# Altium footprint library IC_Max_MAX6820UT+T.PcbLib: 3 footprints
Each footprint in its own frame and in the unit in brackets; x right, y up, seen from the top. Pads: shape width x height; smd on the part's side, far side on the other; paste and mask are expansions set on the pad; w line width, h text height; cw(c..) or ccw(c..) is an arc to the next point about the centre after c.
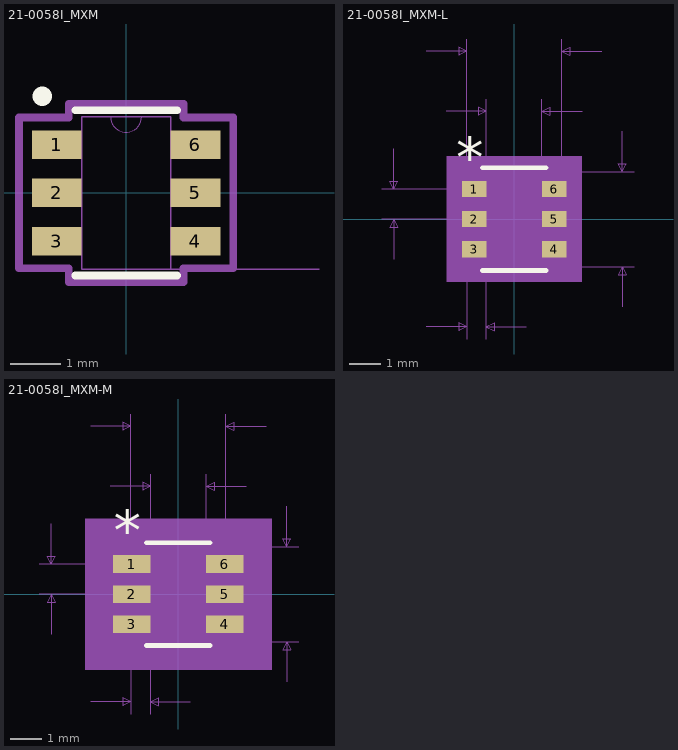
[diagram p0: the footprints below, top view; thin cyan lines are the x and y axes]

## 21-0058I_MXM [mil]
pads (6):
  rect 38.5x22 smd paste+0 mask+0: 1(-53.75,37.4) 2(-53.75,0) 3(-53.75,-37.4) 4(53.75,-37.4) 5(53.75,0) 6(53.75,37.4)
Top Overlay:
  circle w15: c-65,75 r0
  lines w6: -39.5,-64 39.5,-64 ; -39.5,64 39.5,64
Mechanical 7:
  lines w1: 0,-59 149.5,-59
Mechanical 13:
  lines w0: -12,59 ccw(c0,59) 12,59
  lines w1: -59,-47.4 -59,-27.4 -34.5,-27.4 -34.5,-47.4 -59,-47.4 ; -59,-10 -59,10 -34.5,10 -34.5,-10 -59,-10 ; -59,27.4 -59,47.4 -34.5,47.4 -34.5,27.4 -59,27.4 ; -34.5,-59 34.5,-59 34.5,59 -34.5,59 -34.5,-59 ; 34.5,-47.4 34.5,-27.4 59,-27.4 59,-47.4 34.5,-47.4 ; 34.5,-10 34.5,10 59,10 59,-10 34.5,-10 ; 34.5,27.4 34.5,47.4 59,47.4 59,27.4 34.5,27.4
  text "*" at -32,6 h50
Mechanical 15:
  lines w6: -83,-58.4 -83,58.4 -44.5,58.4 -44.5,69 44.5,69 44.5,58.4 83,58.4 83,-58.4 44.5,-58.4 44.5,-69 -44.5,-69 -44.5,-58.4 -83,-58.4
3D body "21-0058I_MXM.step": height 59.09, standoff 2, extent -59.01,-59.01 59.01,59.01

## 21-0058I_MXM-L [mil]
pads (6):
  rect 30.5x20 smd paste+0 mask+0: 1(-49.75,37.4) 2(-49.75,0) 3(-49.75,-37.4) 4(49.75,-37.4) 5(49.75,0) 6(49.75,37.4)
Top Overlay:
  lines w6: -39.5,-64 39.5,-64 ; -39.5,64 39.5,64
  text "*" at -72.25,52.4 h50
Mechanical 5:
  region: 84,-78 -84,-78 -84,78 84,78
Mechanical 7:
  lines w1: -164.75,0 -49.75,0 ; -164.75,37.4 -49.75,37.4 ; -149.75,-50 -149.75,0 ; -149.75,87.4 -149.75,37.4 ; -109,-134 -59,-134 ; -109,209 -59,209 ; -84.5,134 -34.5,134 ; -59,-149 -59,0 -59,224 ; -35,-149 -35,0 ; -34.5,0 -34.5,149 ; 0,-59 149.5,-59 ; 0,59 149.5,59 ; 15,-134 -35,-134 ; 34.5,0 34.5,149 ; 59,0 59,224 ; 84.5,134 34.5,134 ; 109,209 59,209 ; 134.5,-109 134.5,-59 ; 134.5,109 134.5,59 ; -149.75,0 -154.75,-10 -144.75,-10 -149.75,0 ; -149.75,37.4 -154.75,47.4 -144.75,47.4 -149.75,37.4 ; -59,-134 -69,-129 -69,-139 -59,-134 ; -59,209 -69,214 -69,204 -59,209 ; -35,-134 -25,-129 -25,-139 -35,-134 ; -34.5,134 -44.5,139 -44.5,129 -34.5,134 ; 34.5,134 44.5,139 44.5,129 34.5,134 ; 59,209 69,214 69,204 59,209 ; 134.5,-59 129.5,-69 139.5,-69 134.5,-59 ; 134.5,59 129.5,69 139.5,69 134.5,59
  text "Default Padstyle: RX30p5Y20D0T" at -375,-259 h50
  text "Pin One Padstyle: RX30p5Y20D0T" at -375,-319 h50
  text "Alt 1 Padstyle: OX60Y90D30P" at -337.5,-499 h50
  text "Alt 2 Padstyle: OX90Y60D30P" at -337.5,-559 h50
  text "0.069in/1.753mm" at -93.75,154 h25
  text "0.118in/2.997mm" at -93.75,229 h25
  text "0.118in/2.997mm" at 154.5,-12.5 h25
  text "0.037in/0.95mm" at -344.75,6.2 h25
  text "0.024in/0.61mm" at -134.5,-179 h25
Mechanical 13:
  lines w0: -12,59 ccw(c0,59) 12,59
  lines w1: -59,-47.4 -59,-27.4 -34.5,-27.4 -34.5,-47.4 -59,-47.4 ; -59,-10 -59,10 -34.5,10 -34.5,-10 -59,-10 ; -59,27.4 -59,47.4 -34.5,47.4 -34.5,27.4 -59,27.4 ; -34.5,-59 34.5,-59 34.5,59 -34.5,59 -34.5,-59 ; 34.5,-47.4 34.5,-27.4 59,-27.4 59,-47.4 34.5,-47.4 ; 34.5,-10 34.5,10 59,10 59,-10 34.5,-10 ; 34.5,27.4 34.5,47.4 59,47.4 59,27.4 34.5,27.4
  text "*" at -32,6 h50
Mechanical 15:
  region: -38.5,-51.4 -69,-51.4 -69,51.4 -38.5,51.4 -38.5,63 38.5,63 38.5,51.4 69,51.4 69,-51.4 38.5,-51.4 38.5,-63 -38.5,-63
  lines w6: -69,-51.4 -69,51.4 -38.5,51.4 -38.5,63 38.5,63 38.5,51.4 69,51.4 69,-51.4 38.5,-51.4 38.5,-63 -38.5,-63 -38.5,-51.4 -69,-51.4
3D body: height 10, standoff 0, extent 0,0 10,10

## 21-0058I_MXM-M [mil]
pads (6):
  rect 46.5x22 smd paste+0 mask+0: 1(-57.75,37.4) 2(-57.75,0) 3(-57.75,-37.4) 4(57.75,-37.4) 5(57.75,0) 6(57.75,37.4)
Top Overlay:
  lines w6: -39.5,-64 39.5,-64 ; -39.5,64 39.5,64
  text "*" at -80.25,54.4 h50
Mechanical 5:
  region: 116,-94 -116,-94 -116,94 116,94
Mechanical 7:
  lines w1: -172.75,0 -57.75,0 ; -172.75,37.4 -57.75,37.4 ; -157.75,-50 -157.75,0 ; -157.75,87.4 -157.75,37.4 ; -109,-134 -59,-134 ; -109,209 -59,209 ; -84.5,134 -34.5,134 ; -59,-149 -59,0 -59,224 ; -35,-149 -35,0 ; -34.5,0 -34.5,149 ; 0,-59 149.5,-59 ; 0,59 149.5,59 ; 15,-134 -35,-134 ; 34.5,0 34.5,149 ; 59,0 59,224 ; 84.5,134 34.5,134 ; 109,209 59,209 ; 134.5,-109 134.5,-59 ; 134.5,109 134.5,59 ; -157.75,0 -162.75,-10 -152.75,-10 -157.75,0 ; -157.75,37.4 -162.75,47.4 -152.75,47.4 -157.75,37.4 ; -59,-134 -69,-129 -69,-139 -59,-134 ; -59,209 -69,214 -69,204 -59,209 ; -35,-134 -25,-129 -25,-139 -35,-134 ; -34.5,134 -44.5,139 -44.5,129 -34.5,134 ; 34.5,134 44.5,139 44.5,129 34.5,134 ; 59,209 69,214 69,204 59,209 ; 134.5,-59 129.5,-69 139.5,-69 134.5,-59 ; 134.5,59 129.5,69 139.5,69 134.5,59
  text "Default Padstyle: RX46p5Y22D0T" at -375,-259 h50
  text "Pin One Padstyle: RX46p5Y22D0T" at -375,-319 h50
  text "Alt 1 Padstyle: OX60Y90D30P" at -337.5,-499 h50
  text "Alt 2 Padstyle: OX90Y60D30P" at -337.5,-559 h50
  text "0.069in/1.753mm" at -93.75,154 h25
  text "0.118in/2.997mm" at -93.75,229 h25
  text "0.118in/2.997mm" at 154.5,-12.5 h25
  text "0.037in/0.95mm" at -352.75,6.2 h25
  text "0.024in/0.61mm" at -134.5,-179 h25
Mechanical 13:
  lines w0: -12,59 ccw(c0,59) 12,59
  lines w1: -59,-47.4 -59,-27.4 -34.5,-27.4 -34.5,-47.4 -59,-47.4 ; -59,-10 -59,10 -34.5,10 -34.5,-10 -59,-10 ; -59,27.4 -59,47.4 -34.5,47.4 -34.5,27.4 -59,27.4 ; -34.5,-59 34.5,-59 34.5,59 -34.5,59 -34.5,-59 ; 34.5,-47.4 34.5,-27.4 59,-27.4 59,-47.4 34.5,-47.4 ; 34.5,-10 34.5,10 59,10 59,-10 34.5,-10 ; 34.5,27.4 34.5,47.4 59,47.4 59,27.4 34.5,27.4
  text "*" at -32,6 h50
Mechanical 15:
  region: -54.5,-68.4 -101,-68.4 -101,68.4 -54.5,68.4 -54.5,79 54.5,79 54.5,68.4 101,68.4 101,-68.4 54.5,-68.4 54.5,-79 -54.5,-79
  lines w6: -101,-68.4 -101,68.4 -54.5,68.4 -54.5,79 54.5,79 54.5,68.4 101,68.4 101,-68.4 54.5,-68.4 54.5,-79 -54.5,-79 -54.5,-68.4 -101,-68.4
3D body: height 10, standoff 0, extent 0,0 10,10